# Altium footprint library PCB - CAPACITOR - ALUMINIUM - CAP ALSMD POLY 4.3MM H5.5MM.PCBLIB: 1 footprints
Each footprint in its own frame and in the unit in brackets; x right, y up, seen from the top. Pads: shape width x height; smd on the part's side, far side on the other; paste and mask are expansions set on the pad; w line width, h text height; cw(c..) or ccw(c..) is an arc to the next point about the centre after c.
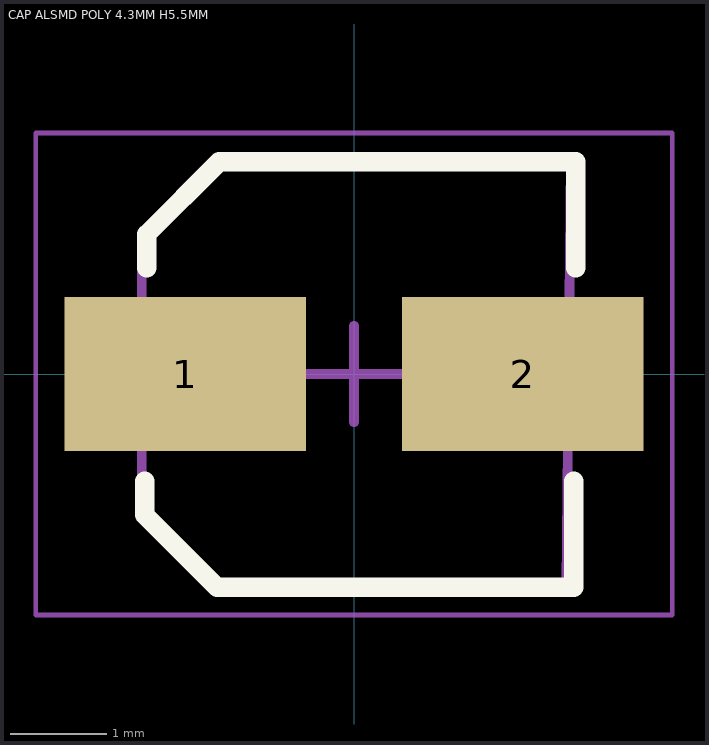
[diagram p0: the footprint, top view; thin cyan lines are the x and y axes]

## CAP ALSMD POLY 4.3MM H5.5MM [mm] "Aluminum Polymer Capacitor, Body 4.30x4.30x5.50mm, IPC Low Density"
height 5.5
pads (2):
  rect 2.5x1.6 smd: 1(-1.75,0) 2(1.75,0)
Top Overlay:
  lines w0.2: -2.17,-1.112 -2.17,-1.462 -1.42,-2.212 2.28,-2.212 2.28,-1.112 ; -2.15,1.1 -2.15,1.45 -1.4,2.2 2.3,2.2 2.3,1.1
Mechanical 13:
  lines w0.1: -2.2,-1.4 -1.4,-2.2 2.2,-2.2 2.25,2.2 -1.4,2.2 -2.2,1.4 -2.2,-1.4
Mechanical 15:
  lines w0.05: -3.3,-2.5 -3.3,2.5 3.3,2.5 3.3,-2.5 -3.3,-2.5
  lines w0.1: -0.5,0 0.5,0 ; 0,-0.5 0,0.5
3D body "CAP ALSMD - POLY - 4.3 x 4.3 x 5.5.step": height 5.5, standoff 0, extent -2.3,-2.2 2.3,2.2